# EAGLE library part BGM111 (library 25cmsquare)
BGM111
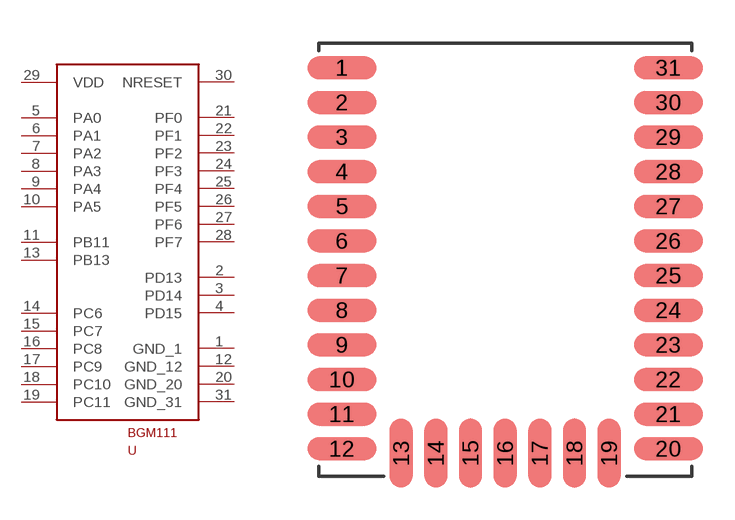
[diagram p10: symbol with the pads of BGM111; footprint BGM111]

Designator prefix U

## BGM111  [BGM111]
1  GND_1  pwr
2  PD13
3  PD14
4  PD15
5  PA0
6  PA1
7  PA2
8  PA3
9  PA4
10  PA5
11  PB11
12  GND_12  pwr
13  PB13
14  PC6
15  PC7
16  PC8
17  PC9
18  PC10
19  PC11
20  GND_20  pwr
21  PF0
22  PF1
23  PF2
24  PF3
25  PF4
26  PF5
27  PF6
28  PF7
29  VDD  pwr
30  NRESET
31  GND_31  pwr

## Footprint BGM111 (pad centres in mm)
smd 2.4 x 0.8: 1 -5.65,14.15; 2 -5.65,12.95; 3 -5.65,11.75; 4 -5.65,10.55; 5 -5.65,9.35; 6 -5.65,8.15; 7 -5.65,6.95; 8 -5.65,5.75; 9 -5.65,4.55; 10 -5.65,3.35; 11 -5.65,2.15; 12 -5.65,0.95; 20 5.65,0.95; 21 5.65,2.15; 22 5.65,3.35; 23 5.65,4.55; 24 5.65,5.75; 25 5.65,6.95; 26 5.65,8.15; 27 5.65,9.35; 28 5.65,10.55; 29 5.65,11.75; 30 5.65,12.95; 31 5.65,14.15
smd 0.8 x 2.4: 13 -3.6,0.8; 14 -2.4,0.8; 15 -1.2,0.8; 16 0,0.8; 17 1.2,0.8; 18 2.4,0.8; 19 3.6,0.8